# Altium schematic symbol library Sim.SchLib: 1 symbol
Pins are listed as number, name and electrical type; pins without a type are passive.

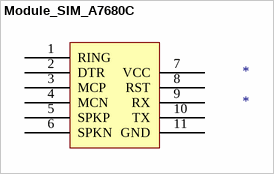
[diagram p0: symbol Module_SIM_A7680C]

## Module_SIM_A7680C
designator *
footprint Footprint_Module_SIM_A7680C
pins: 1 RING, 2 DTR, 3 MCP, 4 MCN, 5 SPKP, 6 SPKN, 7 VCC, 8 RST, 9 RX, 10 TX, 11 GND